# EAGLE library part CK_SS-44D04-G4/4P4T (library switches)
Through hole 4P4T switch.
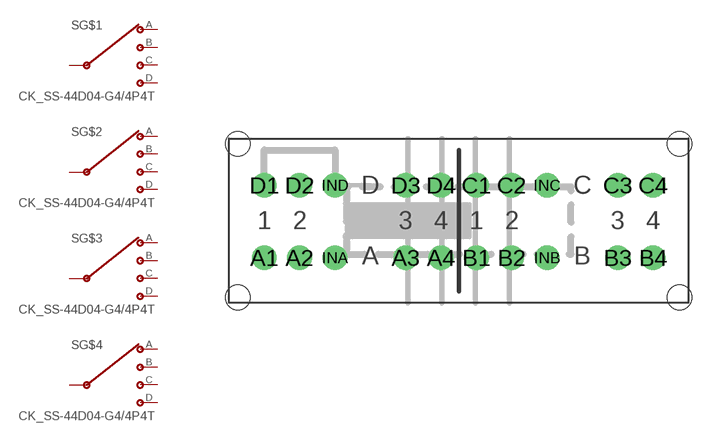
[diagram p5: symbol with the pads of CK_SS-44D04-G4/4P4T; footprint CK_SS-44D04-G4/4P4T]

Designator prefix S; gates G$1=SP4T G$2=SP4T G$3=SP4T G$4=SP4T

## CK_SS-44D04-G4/4P4T  [CK_SS-44D04-G4/4P4T]
A1  G$1:A
A2  G$1:B
A3  G$1:C
A4  G$1:D
B1  G$2:A
B2  G$2:B
B3  G$2:C
B4  G$2:D
C1  G$3:A
C2  G$3:B
C3  G$3:C
C4  G$3:D
D1  G$4:A
D2  G$4:B
D3  G$4:C
D4  G$4:D
INA  G$1:INPUT
INB  G$2:INPUT
INC  G$3:INPUT
IND  G$4:INPUT

## Footprint CK_SS-44D04-G4/4P4T (pad centres in mm)
4P4T
drill 0.8 pad 1.4: A1 -11,-2.1; A2 -9,-2.1; A3 -3,-2.1; A4 -1,-2.1; B1 1,-2.1; B2 3,-2.1; B3 9,-2.1; B4 11,-2.1; C1 1,2; C2 3,2; C3 9,2; C4 11,2; D1 -11,2; D2 -9,2; D3 -3,2; D4 -1,2; INA -7,-2.1; INB 5,-2.1; INC 5,2; IND -7,2
hole 1.4 at -12.5,4.35
hole 1.4 at 12.5,4.35
hole 1.4 at -12.5,-4.35
hole 1.4 at 12.5,-4.35